# Altium schematic symbol library Resistoren.SchLib: 5 symbols
Pins are listed as number, name and electrical type; pins without a type are passive.

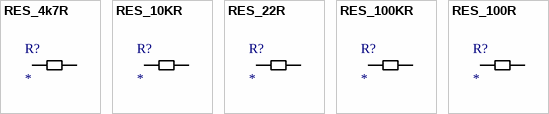
[diagram p0: symbols RES_4k7R to RES_100R]

## RES_4k7R
designator R?
footprint RES_4K7R
pins: 1, 2

## RES_10KR
designator R?
footprint RES_10KR
pins: 1, 2

## RES_22R
designator R?
footprint RES_22R
pins: 1, 2

## RES_100KR
designator R?
footprint RES_100KR
pins: 1, 2

## RES_100R
designator R?
footprint RES_100R
pins: 1, 2